# EAGLE library part PIC18F24J11 (library microchip)
PIC for Touch Sensor
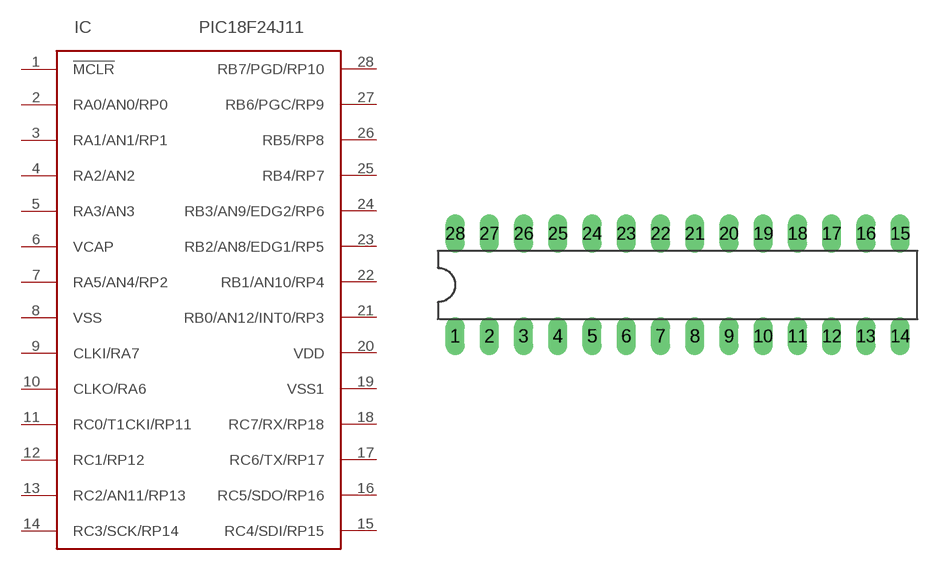
[diagram p33: symbol with the pads of DIL28-3; footprint DIL28-3]

Designator prefix IC

## PIC18F24J11  [DIL28-3]
1  !MCLR
2  RA0/AN0/RP0
3  RA1/AN1/RP1
4  RA2/AN2
5  RA3/AN3
6  VCAP
7  RA5/AN4/RP2
8  VSS
9  CLKI/RA7
10  CLKO/RA6
11  RC0/T1CKI/RP11
12  RC1/RP12
13  RC2/AN11/RP13
14  RC3/SCK/RP14
15  RC4/SDI/RP15
16  RC5/SDO/RP16
17  RC6/TX/RP17
18  RC7/RX/RP18
19  VSS1
20  VDD
21  RB0/AN12/INT0/RP3
22  RB1/AN10/RP4
23  RB2/AN8/EDG1/RP5
24  RB3/AN9/EDG2/RP6
25  RB4/RP7
26  RB5/RP8
27  RB6/PGC/RP9
28  RB7/PGD/RP10

## Footprint DIL28-3 (pad centres in mm)
Dual In Line package type P
drill 0.6 pad 1.422 long: 1 -16.51,-3.81; 2 -13.97,-3.81; 3 -11.43,-3.81; 4 -8.89,-3.81; 5 -6.35,-3.81; 6 -3.81,-3.81; 7 -1.27,-3.81; 8 1.27,-3.81; 9 3.81,-3.81; 10 6.35,-3.81; 11 8.89,-3.81; 12 11.43,-3.81; 13 13.97,-3.81; 14 16.51,-3.81; 15 16.51,3.81; 16 13.97,3.81; 17 11.43,3.81; 18 8.89,3.81; 19 6.35,3.81; 20 3.81,3.81; 21 1.27,3.81; 22 -1.27,3.81; 23 -3.81,3.81; 24 -6.35,3.81; 25 -8.89,3.81; 26 -11.43,3.81; 27 -13.97,3.81; 28 -16.51,3.81